# Altium integrated library 95157-440LF.IntLib: 1 symbol
Pins are listed as number, name and electrical type; pins without a type are passive.

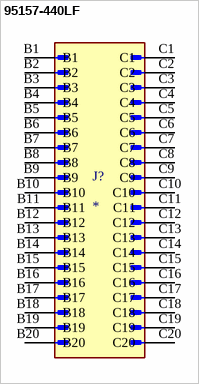
[diagram p0: symbol 95157-440LF]

## 95157-440LF
designator J?
BergStik, Board to Board connector, Unshrouded vertical header, Surface mount, Double Row, 40 Positions, 2.54 mm (0.100in) Pitch.; MF: AMPHENOL ICC / FCI; MP: 95157-440LF; SnapEDA_Link: https://www.snapeda.com/parts/95157-440LF/Amphenol/view-part/?ref=snap; Package: None; Value: *; Check_prices: https://www.snapeda.com/parts/95157-440LF/Amphenol/view-part/?ref=eda
footprint AMPHENOL_95157-440LF
pins: B1, B2, B3, B4, B5, B6, B7, B8, B9, B10, B11, B12, B13, B14, B15, B16, B17, B18, B19, B20, C1, C2, C3, C4, C5, C6, C7, C8, C9, C10, C11, C12, C13, C14, C15, C16, C17, C18, C19, C20